# Altium schematic symbol library Schlib_Espressif.SchLib: 6 symbols
Pins are listed as number, name and electrical type; pins without a type are passive.

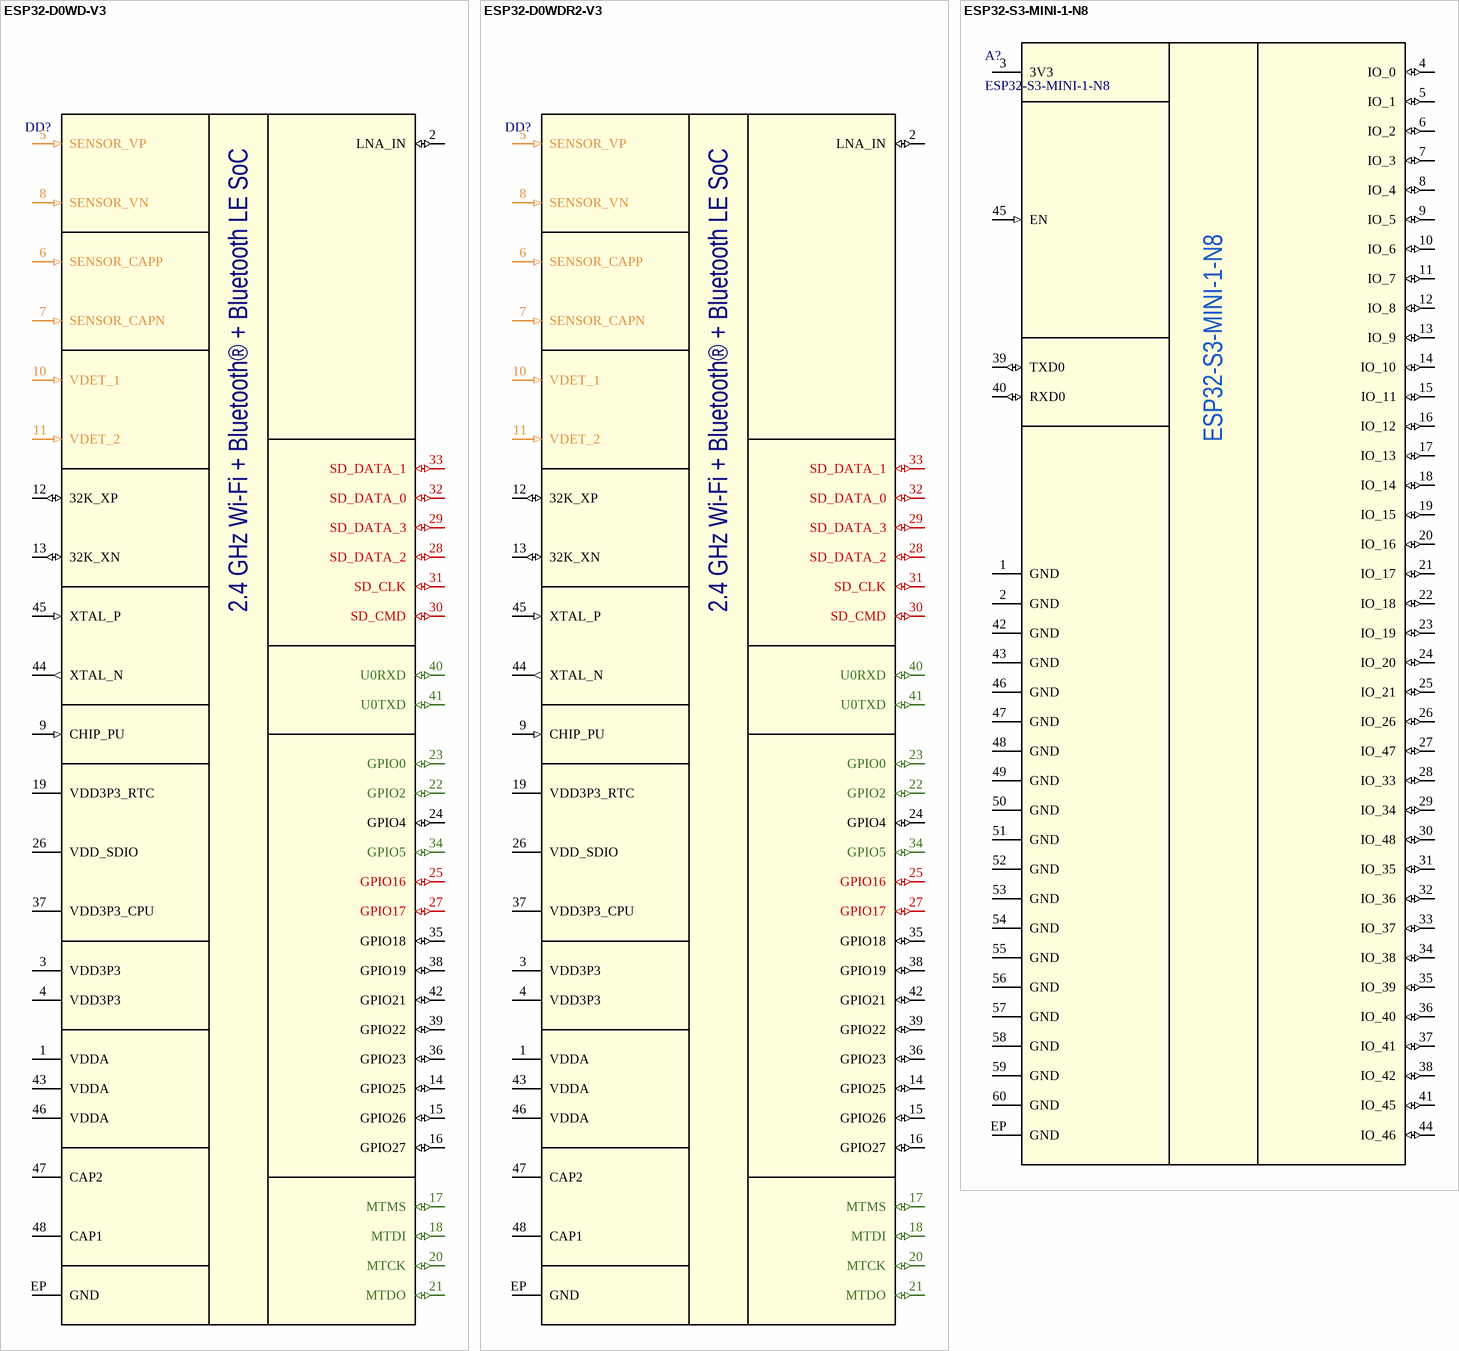
[diagram p0: symbols ESP32-D0WD-V3 to ESP32-S3-MINI-1-N8]

## ESP32-D0WD-V3
designator DD?  (value not drawn)
2.4 GHz Wi-Fi + Bluetooth® + Bluetooth LE SoC, Dual Core VDD_SDIO 1.8/3.3; Manufacturer: Espressif Systems; Package: QFN-48(5x5); Part Number: ESP32-D0WD-V3
footprint QFN48_ESP32 (QFN48 5mm x 5mm, 0.35mm pitch)
pins: 1 VDDA (power), 2 LNA_IN (io), 3 VDD3P3 (power), 4 VDD3P3 (power), 5 SENSOR_VP (in), 6 SENSOR_CAPP (in), 7 SENSOR_CAPN (in), 8 SENSOR_VN (in), 9 CHIP_PU (in), 10 VDET_1 (in), 11 VDET_2 (in), 12 32K_XP (io), 13 32K_XN (io), 14 GPIO25 (io), 15 GPIO26 (io), 16 GPIO27 (io), 17 MTMS (io), 18 MTDI (io), 19 VDD3P3_RTC (power), 20 MTCK (io), 21 MTDO (io), 22 GPIO2 (io), 23 GPIO0 (io), 24 GPIO4 (io), 25 GPIO16 (io), 26 VDD_SDIO (power), 27 GPIO17 (io), 28 SD_DATA_2 (io), 29 SD_DATA_3 (io), 30 SD_CMD (io), 31 SD_CLK (io), 32 SD_DATA_0 (io), 33 SD_DATA_1 (io), 34 GPIO5 (io), 35 GPIO18 (io), 36 GPIO23 (io), 37 VDD3P3_CPU (power), 38 GPIO19 (io), 39 GPIO22 (io), 40 U0RXD (io), 41 U0TXD (io), 42 GPIO21 (io), 43 VDDA (power), 44 XTAL_N (out), 45 XTAL_P (in), 46 VDDA (power), 47 CAP2, 48 CAP1, EP GND (power)
text: 2.4 GHz Wi-Fi + Bluetooth® + Bluetooth LE SoC

## ESP32-D0WDR2-V3
designator DD?  (value not drawn)
2.4 GHz Wi-Fi + Bluetooth® + Bluetooth LE SoC, Dual Core with 2 MB PSRAM; Manufacturer: Espressif Systems; Package: QFN-48(5x5); Part Number: ESP32-D0WDR2-V3
footprint QFN48_ESP32 (QFN48 5mm x 5mm, 0.35mm pitch)
pins: 1 VDDA (power), 2 LNA_IN (io), 3 VDD3P3 (power), 4 VDD3P3 (power), 5 SENSOR_VP (in), 6 SENSOR_CAPP (in), 7 SENSOR_CAPN (in), 8 SENSOR_VN (in), 9 CHIP_PU (in), 10 VDET_1 (in), 11 VDET_2 (in), 12 32K_XP (io), 13 32K_XN (io), 14 GPIO25 (io), 15 GPIO26 (io), 16 GPIO27 (io), 17 MTMS (io), 18 MTDI (io), 19 VDD3P3_RTC (power), 20 MTCK (io), 21 MTDO (io), 22 GPIO2 (io), 23 GPIO0 (io), 24 GPIO4 (io), 25 GPIO16 (io), 26 VDD_SDIO (power), 27 GPIO17 (io), 28 SD_DATA_2 (io), 29 SD_DATA_3 (io), 30 SD_CMD (io), 31 SD_CLK (io), 32 SD_DATA_0 (io), 33 SD_DATA_1 (io), 34 GPIO5 (io), 35 GPIO18 (io), 36 GPIO23 (io), 37 VDD3P3_CPU (power), 38 GPIO19 (io), 39 GPIO22 (io), 40 U0RXD (io), 41 U0TXD (io), 42 GPIO21 (io), 43 VDDA (power), 44 XTAL_N (out), 45 XTAL_P (in), 46 VDDA (power), 47 CAP2, 48 CAP1, EP GND (power)
text: 2.4 GHz Wi-Fi + Bluetooth® + Bluetooth LE SoC

## ESP32-S3-MINI-1-N8
designator A?
2.4 GHz WiFi + Bluetooth® + Bluetooth LE module; Manufacturer: Espressif Systems; Part Number: ESP32-S3-MINI-1-N8
footprint ESP32-S3-MINI-1 (ESP32 SMT Module)
pins: 1 GND (power), 2 GND (power), 3 3V3 (power), 4 IO_0 (io), 5 IO_1 (io), 6 IO_2 (io), 7 IO_3 (io), 8 IO_4 (io), 9 IO_5 (io), 10 IO_6 (io), 11 IO_7 (io), 12 IO_8 (io), 13 IO_9 (io), 14 IO_10 (io), 15 IO_11 (io), 16 IO_12 (io), 17 IO_13 (io), 18 IO_14 (io), 19 IO_15 (io), 20 IO_16 (io), 21 IO_17 (io), 22 IO_18 (io), 23 IO_19 (io), 24 IO_20 (io), 25 IO_21 (io), 26 IO_26 (io), 27 IO_47 (io), 28 IO_33 (io), 29 IO_34 (io), 30 IO_48 (io), 31 IO_35 (io), 32 IO_36 (io), 33 IO_37 (io), 34 IO_38 (io), 35 IO_39 (io), 36 IO_40 (io), 37 IO_41 (io), 38 IO_42 (io), 39 TXD0 (io), 40 RXD0 (io), 41 IO_45 (io), 42 GND (power), 43 GND (power), 44 IO_46 (io), 45 EN (in), 46 GND (power), 47 GND (power), 48 GND (power), 49 GND (power), 50 GND (power), 51 GND (power), 52 GND (power), 53 GND (power), 54 GND (power), 55 GND (power), 56 GND (power), 57 GND (power), 58 GND (power), 59 GND (power), 60 GND (power), EP GND (power)

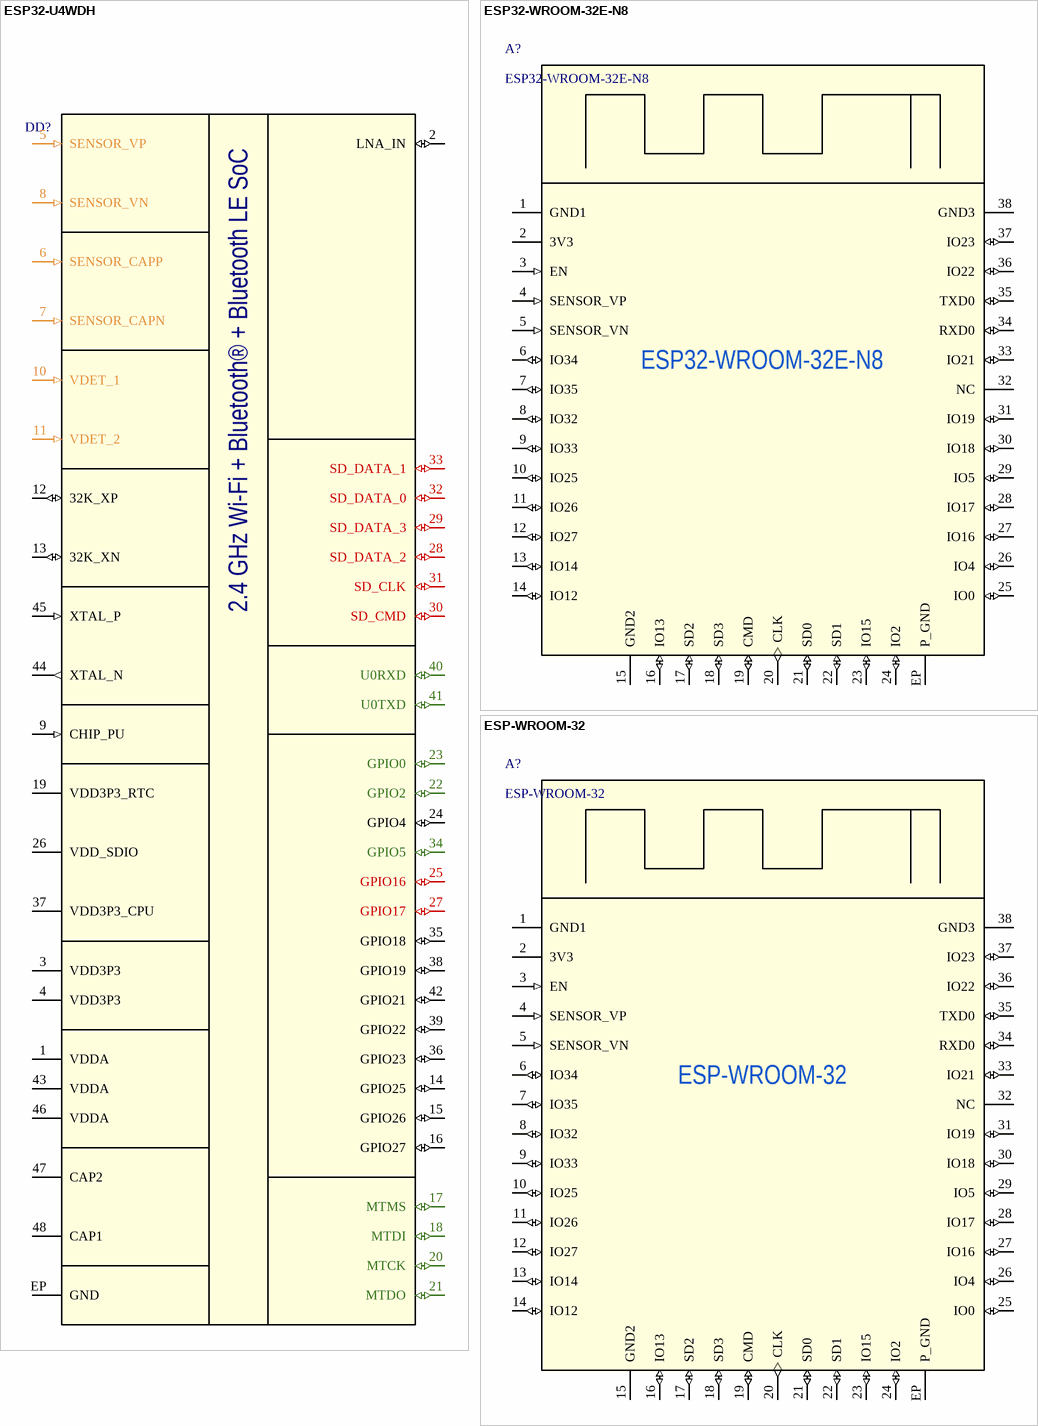
[diagram p1: symbols ESP32-U4WDH to ESP-WROOM-32]

## ESP32-U4WDH
designator DD?  (value not drawn)
2.4 GHz Wi-Fi + Bluetooth® + Bluetooth LE SoC, Dual Core with 4 MB flash (80 MHz); Manufacturer: Espressif Systems; Package: QFN-48(5x5); Part Number: ESP32-U4WDH
footprint QFN48_ESP32 (QFN48 5mm x 5mm, 0.35mm pitch)
pins: 1 VDDA (power), 2 LNA_IN (io), 3 VDD3P3 (power), 4 VDD3P3 (power), 5 SENSOR_VP (in), 6 SENSOR_CAPP (in), 7 SENSOR_CAPN (in), 8 SENSOR_VN (in), 9 CHIP_PU (in), 10 VDET_1 (in), 11 VDET_2 (in), 12 32K_XP (io), 13 32K_XN (io), 14 GPIO25 (io), 15 GPIO26 (io), 16 GPIO27 (io), 17 MTMS (io), 18 MTDI (io), 19 VDD3P3_RTC (power), 20 MTCK (io), 21 MTDO (io), 22 GPIO2 (io), 23 GPIO0 (io), 24 GPIO4 (io), 25 GPIO16 (io), 26 VDD_SDIO (power), 27 GPIO17 (io), 28 SD_DATA_2 (io), 29 SD_DATA_3 (io), 30 SD_CMD (io), 31 SD_CLK (io), 32 SD_DATA_0 (io), 33 SD_DATA_1 (io), 34 GPIO5 (io), 35 GPIO18 (io), 36 GPIO23 (io), 37 VDD3P3_CPU (power), 38 GPIO19 (io), 39 GPIO22 (io), 40 U0RXD (io), 41 U0TXD (io), 42 GPIO21 (io), 43 VDDA (power), 44 XTAL_N (out), 45 XTAL_P (in), 46 VDDA (power), 47 CAP2, 48 CAP1, EP GND (power)
text: 2.4 GHz Wi-Fi + Bluetooth® + Bluetooth LE SoC

## ESP32-WROOM-32E-N8
designator A?
2.4 GHz WiFi + Bluetooth® + Bluetooth LE module; Manufacturer: Espressif Systems; Part Number: ESP32-WROOM-32E-N8
footprint ESP32-WROOM-32E (ESP32 SMT Module)
pins: 1 GND1 (power), 2 3V3 (power), 3 EN (in), 4 SENSOR_VP (in), 5 SENSOR_VN (in), 6 IO34 (io), 7 IO35 (io), 8 IO32 (io), 9 IO33 (io), 10 IO25 (io), 11 IO26 (io), 12 IO27 (io), 13 IO14 (io), 14 IO12 (io), 15 GND2 (power), 16 IO13 (io), 17 SD2 (io), 18 SD3 (io), 19 CMD (io), 20 CLK (out), 21 SD0 (io), 22 SD1 (io), 23 IO15 (io), 24 IO2 (io), 25 IO0 (io), 26 IO4 (io), 27 IO16 (io), 28 IO17 (io), 29 IO5 (io), 30 IO18 (io), 31 IO19 (io), 32 NC (hiz), 33 IO21 (io), 34 RXD0 (io), 35 TXD0 (io), 36 IO22 (io), 37 IO23 (io), 38 GND3 (power), EP P_GND (power)

## ESP-WROOM-32
designator A?
ESP32 Module; Manufacturer: Espressif Systems; Part Number: ESP-WROOM-32
footprint ESP-WROOM-32D (ESP32 SMT Module)
pins: 1 GND1 (power), 2 3V3 (power), 3 EN (in), 4 SENSOR_VP (in), 5 SENSOR_VN (in), 6 IO34 (io), 7 IO35 (io), 8 IO32 (io), 9 IO33 (io), 10 IO25 (io), 11 IO26 (io), 12 IO27 (io), 13 IO14 (io), 14 IO12 (io), 15 GND2 (power), 16 IO13 (io), 17 SD2 (io), 18 SD3 (io), 19 CMD (io), 20 CLK (out), 21 SD0 (io), 22 SD1 (io), 23 IO15 (io), 24 IO2 (io), 25 IO0 (io), 26 IO4 (io), 27 IO16 (io), 28 IO17 (io), 29 IO5 (io), 30 IO18 (io), 31 IO19 (io), 32 NC (hiz), 33 IO21 (io), 34 RXD0 (io), 35 TXD0 (io), 36 IO22 (io), 37 IO23 (io), 38 GND3 (power), EP P_GND (power)